# Altium integrated library 3m.IntLib: 7 symbols
Pins are listed as number, name and electrical type; pins without a type are passive.

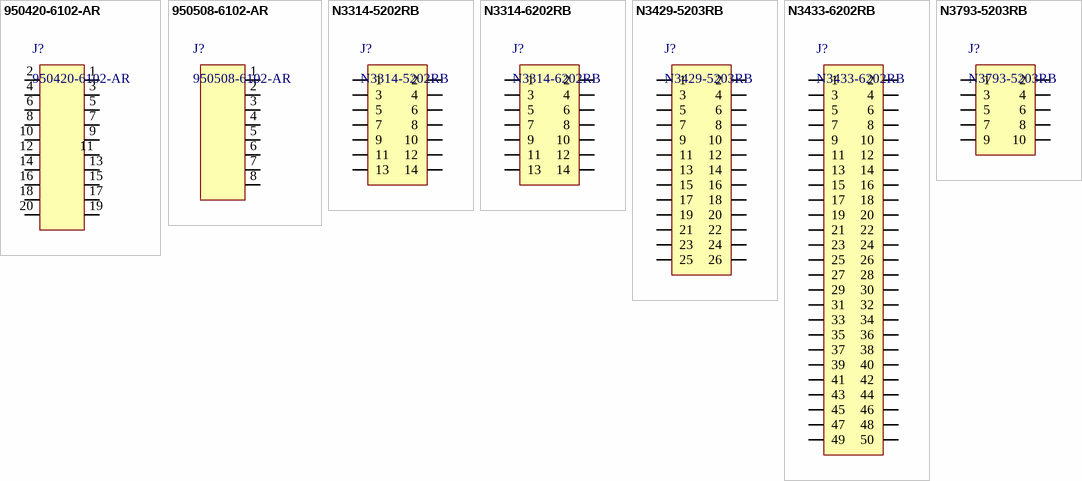
[diagram p0: symbols 950420-6102-AR to N3793-5203RB]

## 950420-6102-AR
designator J?
Headers & Wire Housings 8P BD MNT SKT 1R STRT PTH 10U AU
footprint 950420-6102-AR
pins: 1, 2, 3, 4, 5, 6, 7, 8, 9, 10, 11, 12, 13, 14, 15, 16, 17, 18, 19, 20

## 950508-6102-AR
designator J?
Headers & Wire Housings 8P BD MNT SKT 1R STRT PTH 10U AU
footprint 950508-6102-AR
pins: 1, 2, 3, 4, 5, 6, 7, 8

## N3314-5202RB
designator J?
Headers & Wire Housings 14P BD MNT SKT 1R STRT PTH 10U AU
footprint N3314-5203RB
pins: 1, 2, 3, 4, 5, 6, 7, 8, 9, 10, 11, 12, 13, 14

## N3314-6202RB
designator J?
Headers & Wire Housings 14P BD MNT SKT 1R STRT PTH 10U AU
footprint N3314-6202RB (N3314-5203RB)
pins: 1, 2, 3, 4, 5, 6, 7, 8, 9, 10, 11, 12, 13, 14

## N3429-5203RB
designator J?
Headers & Wire Housings 26P BD MNT SKT 1R STRT PTH 10U AU
footprint N3429-5203RB
pins: 1, 2, 3, 4, 5, 6, 7, 8, 9, 10, 11, 12, 13, 14, 15, 16, 17, 18, 19, 20, 21, 22, 23, 24, 25, 26

## N3433-6202RB
designator J?
Headers & Wire Housings 50P BD MNT SKT 1R STRT PTH 10U AU
footprint N3433-6202RB
pins: 1, 2, 3, 4, 5, 6, 7, 8, 9, 10, 11, 12, 13, 14, 15, 16, 17, 18, 19, 20, 21, 22, 23, 24, 25, 26, 27, 28, 29, 30, 31, 32, 33, 34, 35, 36, 37, 38, 39, 40, 41, 42, 43, 44, 45, 46, 47, 48, 49, 50

## N3793-5203RB
designator J?
Headers & Wire Housings 10P BD MNT SKT 1R STRT PTH 10U AU
footprint N3793-5203RB (N3314-5203RB)
pins: 1, 2, 3, 4, 5, 6, 7, 8, 9, 10